# EAGLE library part INA253A2IPW (library Sensor)
IC CURR SENSE 1 CIRCUIT 20TSSOP Manufacturer's datasheet <http://www.ti.com/lit/ds/symlink/ina253.pdf>
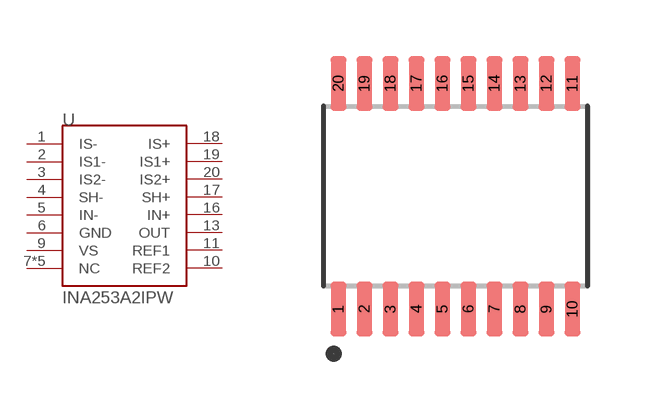
[diagram p20: symbol with the pads of INA253A2IPW; footprint INA253A2IPW]

Designator prefix U

## INA253A2IPW (CREATED_BY: PCBLayout.com; DIGIKEY_PARTNO: 296-53071-ND; MANUFACTURER: Texas Instruments; MPN: INA253A2IPW; PACKAGE: TSSOP-20)  [INA253A2IPW]
1  IS-  in
2  IS1-  in
3  IS2-  in
4  SH-  out
5  IN-  in
6  GND  pwr
7  NC  nc
8  NC  nc
9  VS  pwr
10  REF2  in
11  REF1  in
12  NC  nc
13  OUT  out
14  NC  nc
15  NC  nc
16  IN+  in
17  SH+  out
18  IS+  in
19  IS1+  in
20  IS2+  in

## Footprint INA253A2IPW (pad centres in mm)
Small Outline Pkg (SOP), 0.65 mm pitch; 20 pin, 6.50 mm L X 4.40 mm W X 1.20 mm H body PCB Libraries Packages
smd 0.39 x 1.37: 1 -2.925,-2.82; 2 -2.275,-2.82; 3 -1.625,-2.82; 4 -0.975,-2.82; 5 -0.325,-2.82; 6 0.325,-2.82; 7 0.975,-2.82; 8 1.625,-2.82; 9 2.275,-2.82; 10 2.925,-2.82; 11 2.925,2.82; 12 2.275,2.82; 13 1.625,2.82; 14 0.975,2.82; 15 0.325,2.82; 16 -0.325,2.82; 17 -0.975,2.82; 18 -1.625,2.82; 19 -2.275,2.82; 20 -2.925,2.82